# Altium schematic symbol library EEHZA1H330XP.SchLib: 1 symbol
Pins are listed as number, name and electrical type; pins without a type are passive.

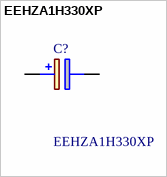
[diagram p0: symbol EEHZA1H330XP]

## EEHZA1H330XP
designator C?
Hybrid Capacitor SMT ZA 50V 33uF low ESR Panasonic 33uF 50 V dc Aluminium Electrolytic Capacitor D8, ZA Series 10000h 6.3 x 7.7mm; Geometry.Height: 8.3mm; Manufacturer_Name: Panasonic; Manufacturer_Part_Number: EEHZA1H330XP; Mouser Part Number: *; Mouser Price/Stock: *; Arrow Part Number: EEHZA1H330XP; Arrow Price/Stock: https://www.arrow.com/en/products/eehza1h330xp/panasonic?region=nac; Datasheet Link: http://industrial.panasonic.com/cdbs/www-data/pdf/RDD0000/ABA0000C1221.pdf
footprint EEHZA1E101XP
pins: 1 +, 2 -